# EAGLE library part 5CHT (library inductor-toko)
HELICAL FILTER 5MM TOKO 5CHT Series
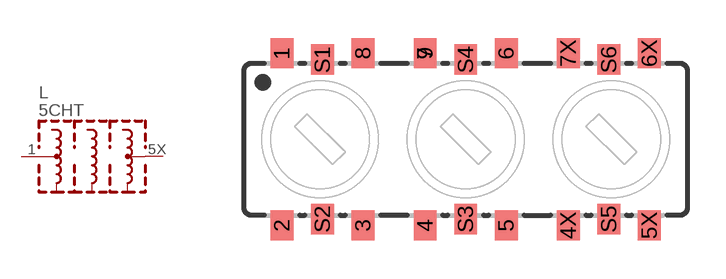
[diagram p0: symbol with the pads of 5CHT; footprint 5CHT]

Designator prefix L

## 5CHT  [5CHT]
1  IN  pas
2  2  pas
3  3  pas
4  4  pas
4X  4X  pas
5  5  pas
5X  OUT  pas
6  6  pas
6X  6X  pas
7  7  pas
7X  7X  pas
8  8  pas
S1  S1  pas
S2  S2  pas
S3  S3  pas
S4  S4  pas
S5  S5  pas
S6  S6  pas

## Footprint 5CHT (pad centres in mm)
5MM HELICAL FILTER TOKO 5CHT
smd 0.9 x 1.2: 1 -7.25,3.4; 2 -7.25,-3.4; 3 -4.05,-3.4; 4 -1.6,-3.4; 4X 4.05,-3.4; 5 1.6,-3.4; 5X 7.25,-3.4; 6 1.6,3.4; 6X 7.25,3.4; 7X 4.05,3.4; 8 -4.05,3.4; 9 -1.6,3.4; S1 -5.65,3.15; S2 -5.65,-3.15; S3 0,-3.15; S4 0,3.15; S5 5.65,-3.15; S6 5.65,3.15
smd 0.9 x 1.2 bottom: 7 -1.6,3.4